# Altium footprint library SparkFun-Aesthetics.PCBLIB: 96 footprints (part 3 of 6)
Each footprint in its own frame and in the unit in brackets; x right, y up, seen from the top. Pads: shape width x height; smd on the part's side, far side on the other; paste and mask are expansions set on the pad; w line width, h text height; cw(c..) or ccw(c..) is an arc to the next point about the centre after c.
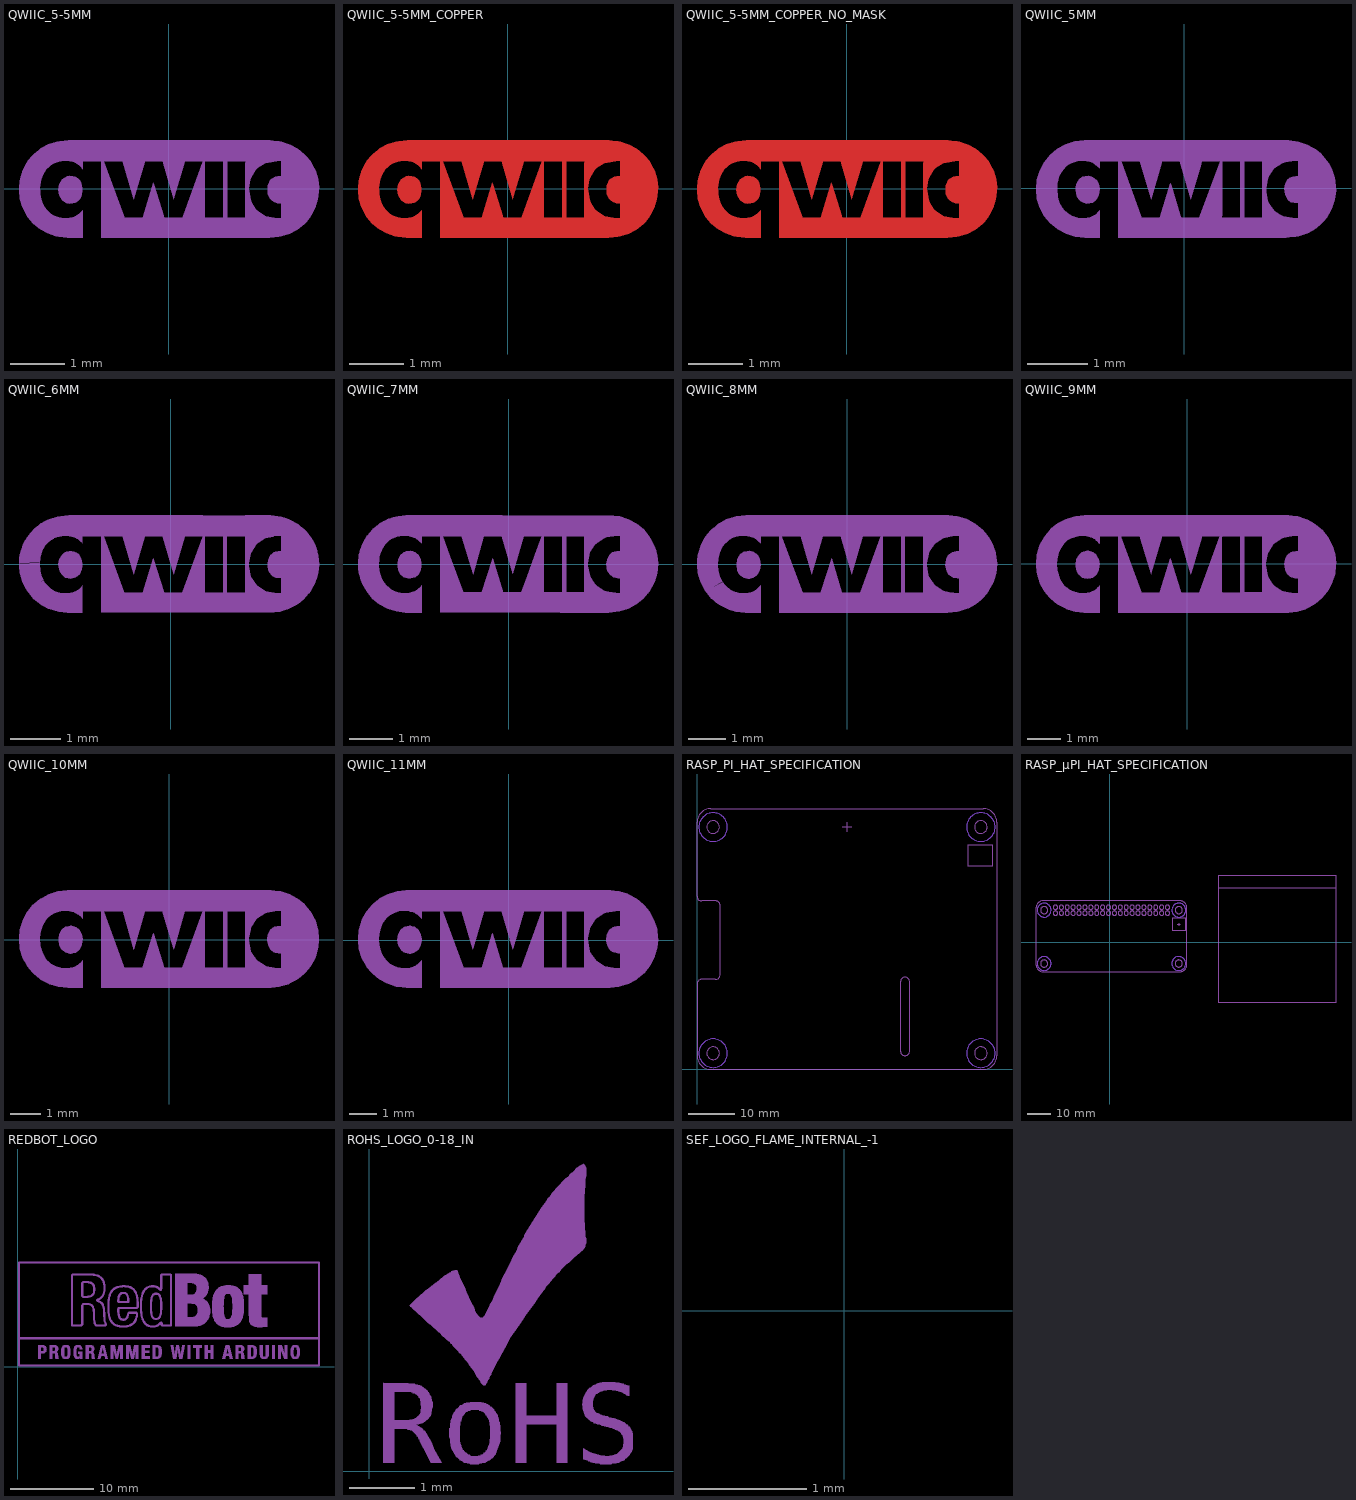
[diagram p2: the footprints below, top view; thin cyan lines are the x and y axes]

## QWIIC_5-5MM [mm]
tPlace:
  drawing of 2 lines, arcs and shapes, not listed

## QWIIC_5-5MM_COPPER [mm]
Top:
  region: 195 vertices and 0 holes, not listed, extent -2.745,-0.895 2.751,0.888
  region: -2.007,0.087 -2.023,-0.016 -2.007,-0.119 -1.982,-0.165 -1.954,-0.208 -1.912,-0.239 -1.866,-0.26 -1.815,-0.271 -1.764,-0.266 -1.713,-0.256 -1.671,-0.225 -1.634,-0.19 -1.609,-0.144 -1.592,-0.096 -1.584,-0.044 -1.584,0.007 -1.592,0.059 -1.607,0.108 -1.632,0.153 -1.669,0.189 -1.711,0.221 -1.762,0.231 -1.813,0.237 -1.864,0.226 -1.911,0.206 -1.952,0.175 -1.981,0.132

## QWIIC_5-5MM_COPPER_NO_MASK [mm]
Top:
  region: 195 vertices and 0 holes, not listed, extent -2.745,-0.895 2.751,0.888
  region: -2.007,0.087 -2.023,-0.016 -2.007,-0.119 -1.982,-0.165 -1.954,-0.208 -1.912,-0.239 -1.866,-0.26 -1.815,-0.271 -1.764,-0.266 -1.713,-0.256 -1.671,-0.225 -1.634,-0.19 -1.609,-0.144 -1.592,-0.096 -1.584,-0.044 -1.584,0.007 -1.592,0.059 -1.607,0.108 -1.632,0.153 -1.669,0.189 -1.711,0.221 -1.762,0.231 -1.813,0.237 -1.864,0.226 -1.911,0.206 -1.952,0.175 -1.981,0.132
Top Solder:
  drawing of 2 lines, arcs and shapes, not listed

## QWIIC_5MM [mm]
tPlace:
  drawing of 2 lines, arcs and shapes, not listed

## QWIIC_6MM [mm]
tPlace:
  drawing of 26 lines, arcs and shapes, not listed

## QWIIC_7MM [mm]
tPlace:
  drawing of 24 lines, arcs and shapes, not listed

## QWIIC_8MM [mm]
tPlace:
  drawing of 26 lines, arcs and shapes, not listed

## QWIIC_9MM [mm]
tPlace:
  drawing of 2 lines, arcs and shapes, not listed

## QWIIC_10MM [mm]
tPlace:
  drawing of 2 lines, arcs and shapes, not listed

## QWIIC_11MM [mm]
tPlace:
  drawing of 2 lines, arcs and shapes, not listed

## RASP_PI_HAT_SPECIFICATION [mm]
Top keep-out:
  circle w0.254: c3.5,52.5 r3.1
  circle w0.254: c61.5,52.5 r3.1
  circle w0.254: c61.5,3.5 r3.1
  circle w0.254: c3.5,3.5 r3.1
Bottom keep-out:
  circle w0.254: c3.5,3.5 r3.1
  circle w0.254: c61.5,3.5 r3.1
  circle w0.254: c61.5,52.5 r3.1
  circle w0.254: c3.5,52.5 r3.1
Dimension:
  lines w0.254: 0,3 0,18.5 cw(c1,18.5) 1,19.5 4,19.5 ccw(c4,20.5) 5,20.5 5,35.5 ccw(c4,35.5) 4,36.5 1,36.5 cw(c1,37.5) 0,37.5 0,53.5 cw(c3,53.5) 3,56.5 62,56.5 cw(c62,53.5) 65,53.5 65,3 cw(c62,3) 62,0 3,0 cw(c3,3) 0,3 ; 44.08,3.96 44.08,18.96 cw(c45.08,18.96) 45.08,19.96 cw(c45.08,18.96) 46.08,18.96 46.08,3.96 cw(c45.08,3.96) 45.08,2.96 cw(c45.08,3.96) 44.08,3.96
tDocu:
  circle w0.254: c3.5,3.5 r1.375
  circle w0.254: c61.5,3.5 r1.375
  circle w0.254: c3.5,52.5 r1.375
  circle w0.254: c61.5,52.5 r1.375
  lines w0.254: 31.5,52.5 33.5,52.5 ; 32.5,51.5 32.5,53.5 ; 58.8,44 64,44 64,48.7 58.8,48.7 58.8,44

## RASP_μPI_HAT_SPECIFICATION [mm]
Top keep-out:
  circle w0.076: c-28.245,13.792 r3
  circle w0.076: c29.755,13.792 r3
  circle w0.076: c-28.255,-9.208 r3
  circle w0.076: c29.745,-9.198 r3
Bottom keep-out:
  circle w0.076: c-28.245,13.792 r3
  circle w0.076: c29.755,13.792 r3
  circle w0.076: c-28.255,-9.208 r3
  circle w0.076: c29.745,-9.198 r3
tDocu:
  circle w0.025: c-23.38,12.5 r0.951
  circle w0.025: c-23.38,15.03 r0.951
  circle w0.025: c-20.84,12.5 r0.951
  circle w0.025: c-20.84,15.03 r0.951
  circle w0.025: c-18.3,12.5 r0.951
  circle w0.025: c-18.3,15.03 r0.951
  circle w0.025: c-15.76,12.5 r0.951
  circle w0.025: c-15.76,15.03 r0.951
  circle w0.025: c-13.22,12.5 r0.951
  circle w0.025: c-13.22,15.03 r0.951
  circle w0.025: c-10.68,12.5 r0.951
  circle w0.025: c-10.68,15.03 r0.951
  circle w0.025: c-8.14,12.5 r0.951
  circle w0.025: c-8.14,15.03 r0.951
  circle w0.025: c-5.6,12.5 r0.951
  circle w0.025: c-5.6,15.03 r0.951
  circle w0.025: c-3.06,12.5 r0.951
  circle w0.025: c-3.06,15.03 r0.951
  circle w0.025: c-0.52,12.5 r0.951
  circle w0.025: c-0.52,15.03 r0.951
  circle w0.025: c2.02,12.5 r0.951
  circle w0.025: c2.02,15.03 r0.951
  circle w0.025: c4.56,12.5 r0.951
  circle w0.025: c4.56,15.03 r0.951
  circle w0.025: c7.1,12.5 r0.951
  circle w0.025: c7.1,15.03 r0.951
  circle w0.025: c9.64,12.5 r0.951
  circle w0.025: c9.64,15.03 r0.951
  circle w0.025: c12.18,12.5 r0.951
  circle w0.025: c12.18,15.03 r0.951
  circle w0.025: c14.72,12.5 r0.951
  circle w0.025: c14.72,15.03 r0.951
  circle w0.025: c17.26,12.5 r0.951
  circle w0.025: c17.26,15.03 r0.951
  circle w0.025: c19.8,12.5 r0.951
  circle w0.025: c19.8,15.03 r0.951
  circle w0.025: c22.34,12.5 r0.951
  circle w0.025: c22.34,15.03 r0.951
  circle w0.025: c24.88,12.5 r0.951
  circle w0.025: c24.88,15.03 r0.951
  circle w0.025: c-28.245,13.792 r1.535
  circle w0.025: c-28.245,13.792 r1.535
  circle w0.025: c29.755,13.792 r1.535
  circle w0.025: c-28.255,-9.208 r1.535
  circle w0.025: c-28.255,-9.208 r1.535
  circle w0.025: c29.745,-9.198 r1.535
  lines w0.203: -31.75,-9.7 -31.75,14.8 cw(c-28.75,14.8) -28.75,17.8 30.25,17.8 cw(c30.25,14.8) 33.25,14.8 33.25,-9.7 cw(c30.25,-9.7) 30.25,-12.7 -28.75,-12.7 cw(c-28.75,-9.7) -31.75,-9.7
  lines w0.254: 29.14,7.66 30.4,7.66 ; 29.76,7.04 29.76,8.2 ; 46.64,23.51 46.64,28.59 97.44,28.59 97.44,23.51 ; 46.64,23.51 46.64,-25.86 97.44,-25.86 97.44,23.51 ; 46.64,23.51 97.44,23.51
  text "Min Î¼Hat Specifications" at 47.91,24.78 h2.16
  text "- Mounting hole offset at top of" at 47.91,13.604 h1.51
  text "board is not equal to mounting" at 47.91,10.937 h1.51
  text "hole offset at bottom of board" at 47.91,8.27 h1.51
  text "- Mounting holes are non-plated" at 47.91,4.587 h1.51
  text "or electrically isolated." at 47.91,1.92 h1.51
  text "- Must have minimum 3 mounting" at 47.91,-10.653 h1.51
  text "holes" at 47.91,-13.32 h1.51
  text "- If non-plated landing area use" at 47.91,-1.636 h1.51
  text "trestrict and brestrict of radius" at 47.91,-4.303 h1.51
  text "3.1mm" at 47.91,-6.97 h1.51
  text "- Î¼Hat dimensions measures" at 47.91,19.827 h1.51
  text "are in reference Layer 49" at 47.91,17.16 h1.51
  text "- The box below the right" at 48,-16.999 h1.51
  text "mounting hole is for a 2x4" at 48,-19.666 h1.51
  text "pin header on the Pi 3" at 48,-22.333 h1.51
  text "Model B+." at 48,-25 h1.51
Reference:
  lines w0.1: 27,5 27,10.44 32.5,10.44 32.5,5 27,5
  text "Units in MM" at -10.75,-25.7 h1.7

## REDBOT_LOGO [mm]
tPlace:
  drawing of 405 lines, arcs and shapes, not listed

## REVISION [mm]
tDocu:
  text "Revision By:" at 0,0 h1.51

## ROHS_LOGO_0-18_IN [mm]
tPlace:
  drawing of 7 lines, arcs and shapes, not listed

## SEF_LOGO_FLAME_INTERNAL_-1 [mm]
Route15:
  region: 0.557,0.839 0.557,0.749 0.547,0.719 0.537,0.699 0.507,0.669 0.477,0.659 0.447,0.659 0.367,0.679 0.327,0.699 0.297,0.719 0.257,0.749 0.197,0.809 0.157,0.869 0.147,0.909 0.147,0.969 0.157,0.999 0.167,1.019 0.187,1.049 0.227,1.079 0.267,1.099 0.317,1.109 0.357,1.119 0.417,1.119 0.437,1.109 0.447,1.109 0.437,1.119 0.397,1.149 0.257,1.219 0.167,1.239 0.067,1.239 -0.043,1.219 -0.153,1.159 -0.243,1.089 -0.293,1.009 -0.323,0.919 -0.323,0.839 -0.303,0.749 -0.253,0.659 -0.183,0.579 -0.103,0.489 -0.033,0.419 -0.003,0.339 -0.003,0.269 -0.023,0.209 -0.063,0.159 -0.123,0.119 -0.203,0.099 -0.283,0.099 -0.333,0.109 -0.383,0.129 -0.443,0.189 -0.463,0.219 -0.473,0.249 -0.473,0.289 -0.463,0.319 -0.403,0.379 -0.373,0.389 -0.333,0.409 -0.323,0.419 -0.363,0.439 -0.483,0.439 -0.543,0.429 -0.593,0.419 -0.643,0.399 -0.683,0.369 -0.733,0.329 -0.793,0.229 -0.813,0.159 -0.823,0.079 -0.823,-1.291 -0.773,-1.241 -0.743,-1.191 -0.693,-1.141 -0.643,-1.081 -0.523,-0.961 -0.403,-0.821 -0.303,-0.721 -0.203,-0.661 -0.143,-0.651 0.047,-0.651 0.167,-0.631 0.277,-0.601 0.377,-0.561 0.477,-0.501 0.557,-0.431 0.637,-0.351 0.707,-0.261 0.807,-0.081 0.857,0.109 0.867,0.279 0.837,0.439 0.787,0.589 0.717,0.699 0.637,0.789